# EAGLE library part HEF4051BP (library NXP_By_element14_Batch_1)
8-channel analog multiplexer/demultiplexer
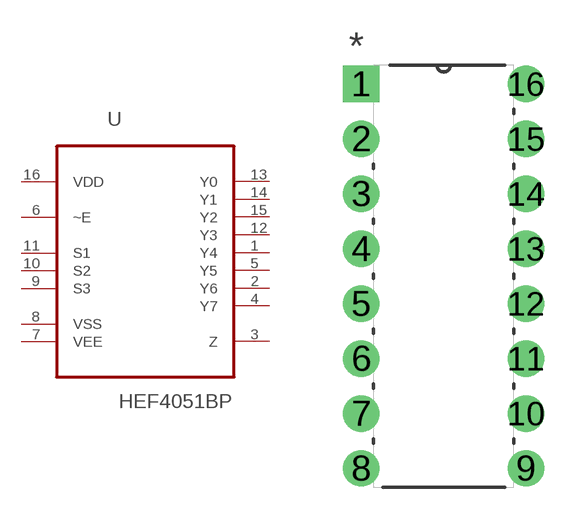
[diagram p259: symbol with the pads of DIP254P762X420-16; footprint DIP254P762X420-16]

Designator prefix U

## HEF4051BP (MPN: HEF4051BP; OC_FARNELL: 385347; OC_NEWARK: 10WX5446; PACKAGE: DIP-16; SUPPLIER: NXP)  [DIP254P762X420-16]
1  Y4
2  Y6
3  Z
4  Y7
5  Y5
6  ~E  in
7  VEE  pwr
8  VSS  pas
9  S3  in
10  S2  in
11  S1  in
12  Y3
13  Y0
14  Y1
15  Y2
16  VDD  pwr

## Footprint DIP254P762X420-16 (pad centres in mm)
drill 1.118 square: 1 -7.62,17.78
drill 1.118: 2 -7.62,15.24; 3 -7.62,12.7; 4 -7.62,10.16; 5 -7.62,7.62; 6 -7.62,5.08; 7 -7.62,2.54; 8 -7.62,0; 9 0,0; 10 0,2.54; 11 0,5.08; 12 0,7.62; 13 0,10.16; 14 0,12.7; 15 0,15.24; 16 0,17.78